# EAGLE library part LN514RK (library ads)
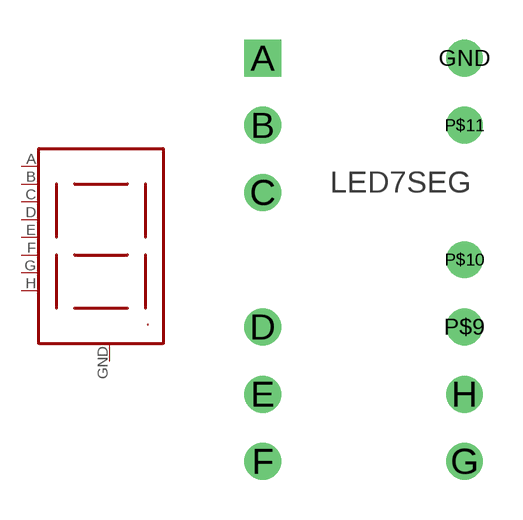
[diagram p0: symbol with the pads of LED7SEG; footprint LED7SEG]

Designator prefix L

## LN514RK  [LED7SEG]
A  A  in
B  B  in
C  C  in
D  D  in
E  E  in
F  F  in
G  G  in
GND  P$8  pwr
H  H  in

## Footprint LED7SEG (pad centres in mm)
drill 0.813 pad 1.397 square: A -7.62,7.62
drill 0.813 pad 1.397 round: B -7.62,5.08; C -7.62,2.54; D -7.62,-2.54; E -7.62,-5.08; F -7.62,-7.62; G 0,-7.62; GND 0,7.62; H 0,-5.08; P$9 0,-2.54; P$10 0,0; P$11 0,5.08